# EAGLE library part TPIC6A596NE (library Eagle3D-IC_Shift_Register)
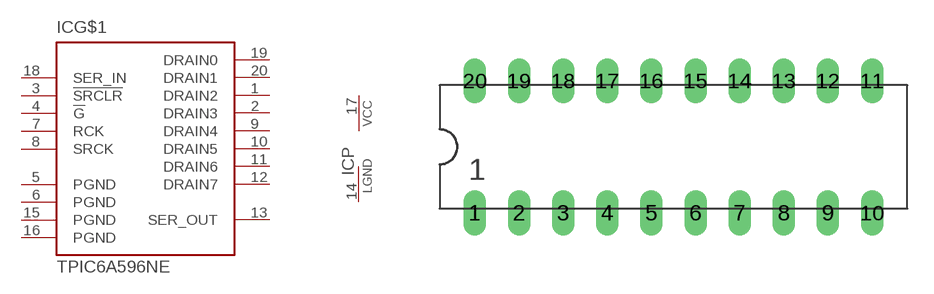
[diagram p0: symbol with the pads of DIL20; footprint DIL20]

Designator prefix IC; gates G$1=TPIC6ANE P=PWR_PINS-VCC_LGND

## TPIC6A596NE  [DIL20]
1  G$1:DRAIN2
2  G$1:DRAIN3
3  G$1:!SRCLR
4  G$1:!G
5  G$1:PGND
6  G$1:PGND
7  G$1:RCK
8  G$1:SRCK
9  G$1:DRAIN4
10  G$1:DRAIN5
11  G$1:DRAIN6
12  G$1:DRAIN7
13  G$1:SER_OUT
14  P:LGND  pwr
15  G$1:PGND
16  G$1:PGND
17  P:VCC  pwr
18  G$1:SER_IN
19  G$1:DRAIN0
20  G$1:DRAIN1

## Footprint DIL20 (pad centres in mm)
drill 0.8 long: 1 -11.43,-3.81; 2 -8.89,-3.81; 3 -6.35,-3.81; 4 -3.81,-3.81; 5 -1.27,-3.81; 6 1.27,-3.81; 7 3.81,-3.81; 8 6.35,-3.81; 9 8.89,-3.81; 10 11.43,-3.81; 11 11.43,3.81; 12 8.89,3.81; 13 6.35,3.81; 14 3.81,3.81; 15 1.27,3.81; 16 -1.27,3.81; 17 -3.81,3.81; 18 -6.35,3.81; 19 -8.89,3.81; 20 -11.43,3.81